# EAGLE library part MOSFET_NCHANNEL_DUAL (library heck)
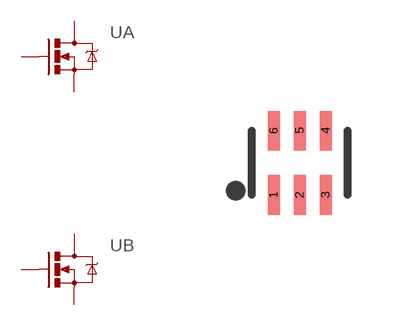
[diagram p17: symbol with the pads of SOT363; footprint SOT363]

Designator prefix U; gates A=MOSFET_NCHANNEL B=MOSFET_NCHANNEL

## MOSFET_NCHANNEL_DUAL_BSS138PS  [SOT363]
1  A:S  pas
2  A:G  pas
3  B:D  pas
4  B:S  pas
5  B:G  pas
6  A:D  pas

## Footprint SOT363 (pad centres in mm)
smd 0.3 x 0.99: 1 -0.65,-0.8; 2 0,-0.8; 3 0.65,-0.8; 4 0.65,0.81; 5 0,0.81; 6 -0.65,0.81